# Altium schematic symbol library Topping_L50.SchLib: 35 symbols
Pins are listed as number, name and electrical type; pins without a type are passive.

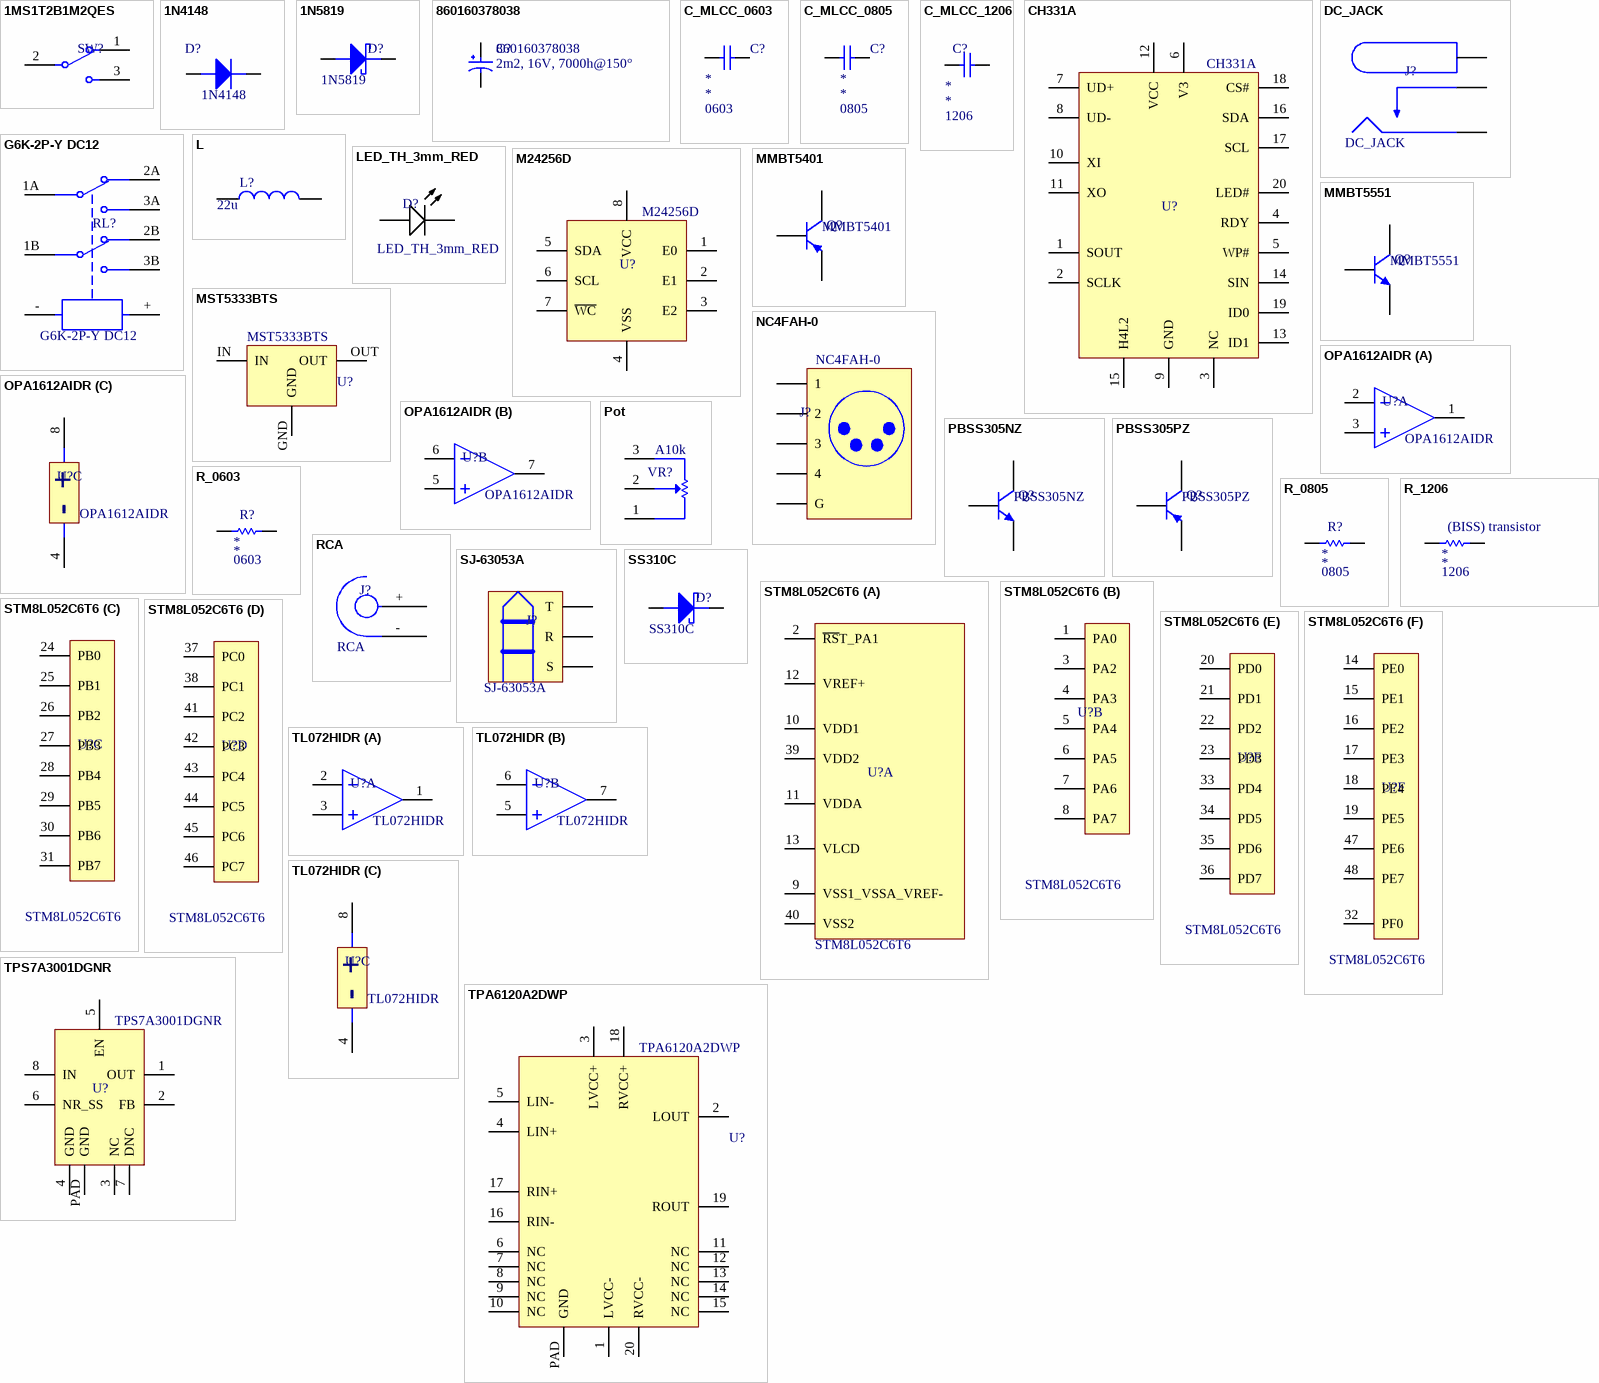
[diagram p0: symbols 1MS1T2B1M2QES to TPS7A3001DGNR]

## 1MS1T2B1M2QES
designator SW?  (value not drawn)
Mini Toggle Switch 1M Series SPDT ON-ON Short Lever PC Through-Hole; Manufacturer: Dailywell; Category: Switch; Sub-Category: Mechanical; Value: 1MS1T2B1M2QES
pins: 1, 2, 3

## 1N4148
designator D?
Generic small signal diode; Manufacturer Part Number: BAT48ZFILM; Number of Elements: 1; Rep Pk Reverse Voltage-Max: 40V; Package Body Material: Plastic; Diode Type: RECTIFIER; Forward Voltage-Max (VF): 250mV; Non-rep Pk Forward Current-Max: 2A; Diode Element Material: SILICON; Time @ Peak Reflow Temperature-Max (s): 30s; Max Output Current: 350mA; Qualification Status: Not Qualified; Peak Reflow Temperature (Cel): 260°C; Max Operating Temperature: 150°C; Terminal Position: DUAL; Technology: SCHOTTKY; JESD-30 Code: R-PDSO-G2; Category: Diode; Surface Mount: Yes; RoHS Compliant: Yes; Manufacturer: Generic; Number of Pins: 2; Sub-Category: Signal; Terminal Form: Gull Wing; REACH SVHC: Yes; JESD-609 Code: e3; Package Shape: Rectangular; Package Style: SMALL OUTLINEMeter; Terminal Finish: Tin; Component Type: Standard_Diode; Value: 1N4148
pins: A, K

## 1N5819
designator D?
Generic Schottky, 1N5819; Manufacturer Part Number: SS3H10-E3/9AT; Diode Element Material: SILICON; Forward Voltage-Max (VF): 650mV; Time @ Peak Reflow Temperature-Max (s): 40s; Diode Type: RECTIFIER; Number of Phases: 1; Non-rep Pk Forward Current-Max: 100A; Rep Pk Reverse Voltage-Max: 100V; Application(s): EFFICIENCY; Qualification Status: Not Qualified; JEDEC-95 Code: DO-214AB; Max Output Current: 3A; Package Body Material: Plastic; Terminal Position: DUAL; JESD-609 Code: e3; JESD-30 Code: R-PDSO-C2; Technology: SCHOTTKY; Min Operating Temperature: -65°C; Terminal Finish: Tin; Package Shape: Rectangular; RoHS Compliant: Yes; Manufacturer: Generic; REACH SVHC: No SVHC; Moisture Sensitivity Level: 1; Number of Elements: 1; Category: Diode; Peak Reflow Temperature (Cel): 260°C; Terminal Form: C BEND; Max Operating Temperature: 175°C; Number of Pins: 2; Package Style: SMALL OUTLINEMeter; Sub-Category: Power; Surface Mount: Yes; Component Type: Standard_Diode; Value: 1N5819
pins: A, K

## 860160378038
designator C?  Notes: 2m2, 16V, 7000h@150°  (hidden comment: 860160378038)
Alum. Electrolytic Cap 2200µF 16V 13mm Radial WCAP-ATLL; Lifetime 7000h +105°C; Manufacturer: Würth Elektronik; Impedance: 90mR; Ripple Current: 2.082A; Polarity: Polar; Life (Hours): 7000Hour; Tolerance: 20%; Capacitance: 2.2mF; Height - Seated (Max): 0.846inch; RoHS Compliant: Yes; Max Operating Temperature: 105°C; Sub-Category: Electrolytic; Mount: Through Hole; Min Operating Temperature: -55°C; Packaging: Tape and Reel; Category: Capacitor; Package Quantity: 300; Voltage Rating: 16V; Lead Pitch: 0.197inch; Case/Package: Radial; Manufacturer Part Number: 860160378038; Component Type: Standard_Passive_C; Value: 860160378038
footprint CAPAE13X20 (Aluminium electrolytic capacitor, polarized 13mm diameter, 20mm height, 5mm pitch)
pins: +, -

## C_MLCC_0603
designator C?  Package: 0603  (hidden comment: C_MLCC_0603)
Generic MLCC 0603 Non Polarized Capacitor; Category: Capacitor; Sub-Category: MLCC; Manufacturer: Generic; Notes: *; Value: *
footprint CAPC1608X09N (Chip Capacitor, 2-Leads, Body 1.60x0.80mm, IPC Medium Density)
pins: 1, 2

## C_MLCC_0805
designator C?  Package: 0805  (hidden comment: C_MLCC_0805)
Generic MLCC 0805 Non Polarized Capacitor; Category: Capacitor; Sub-Category: MLCC; Manufacturer: Generic; Notes: *; Value: *
footprint CAPC2012X14N (Chip Capacitor, 2-Leads, Body 2.00x1.25mm, IPC Medium Density)
pins: 1, 2

## C_MLCC_1206
designator C?  Package: 1206  (hidden comment: C_MLCC_1206)
Generic MLCC Non Polarized Capacitor 1206; Manufacturer: Generic; Category: Capacitor; Sub-Category: MLCC; Notes: *; Value: *
footprint C_NP_1206
pins: 1, 2

## CH331A
designator U?
USB 2.0 SSOP-20-208mil USB Converters ROHS; Manufacturer: WCH; Category: IC; Sub-Category: USB; Package: SSOP20; Value: CH331A
footprint TSOP65P640X120-20N (TSOP, 20-Leads, Body 6,90x4,40mm, Pitch 0,65mm, IPC Medium Density)
pins: 1 SOUT, 2 SCLK, 3 NC, 4 RDY, 5 WP#, 6 V3, 7 UD+, 8 UD-, 9 GND, 10 XI, 11 XO, 12 VCC, 13 ID1, 14 SIN, 15 H4L2, 16 SDA, 17 SCL, 18 CS#, 19 ID0, 20 LED#

## DC_JACK
designator J?
Generic Switched Horizontal DC Jack; Manufacturer: Generic; Category: Connector; Sub-Category: Jack; Value: DC_JACK
footprint DC_JACK
pins: S, SN, T

## G6K-2P-Y DC12
designator RL?
Low Signal Relays - PCB Gullwing NoLatch 3.2 DPDT 12VDC 100mW T/R; Manufacturer: Omron; Category: Switch; Sub-Category: Relay; Value: G6K-2P-Y DC12
footprint G6K-2P-Y
pins: 1A, 1B, 2A, 2B, 3A, 3B, +, -

## L
designator L?  value 22u
Generic L; Manufacturer Part Number: MPXV1D1054L150; RoHS Compliant: Yes; Sub-Category: Power; Manufacturer: Generic; Category: Inductor; Component Type: Standard_Passive_L
pins: 1, 2

## LED_TH_3mm_RED
designator D?
Generic Through Hole 3mm Red Led; Manufacturer: Generic; Category: Diode; Sub-Category: LED; Value: LED_TH_3mm_RED
pins: A, K

## M24256D
designator U?
256-Kbit serial I²C bus EEPROM; Manufacturer: ST Microelectronics; Category: IC; Sub-Category: Memory; Package: SOIC8; Value: M24256D
footprint SOIC127P600X175-8L (SOIC, 8-Leads, Body 4,90x3,90mm, Pitch 1,27mm, IPC High Density)
pins: 1 E0, 2 E1, 3 E2, 4 VSS, 5 SDA, 6 SCL, 7 ~{WC}, 8 VCC

## MMBT5401
designator Q?
PNP Epitaxial Silicon Transistor; Manufacturer: On Semi; Manufacturer Part Number: MMBT3904VL; Package Body Material: Plastic; JEDEC-95 Code: TO-236AB; Transistor Application: SWITCHING; Max Collector Current: 200mA; DC Current Gain-Min (hFE): 30; Turn-on Time-Max (ton): 70ns; Turn-off Time-Max (toff): 250ns; Number of Elements: 1; Polarity/Channel Type: NPN; Transition Frequency-Nom (fT): 300MHz; Collector-emitter Voltage-Max: 40V; Package Shape: Rectangular; JESD-30 Code: R-PDSO-G3; Number of Pins: 3; REACH SVHC: Yes; Sub-Category: BJT; RoHS Compliant: Yes; Transistor Element Material: SILICON; Terminal Position: DUAL; Surface Mount: Yes; Terminal Form: Gull Wing; Package Style: SMALL OUTLINEMeter; Category: Transistor; Component Type: Standard_Transistor; Value: MMBT5401
footprint SOT95P230X110-3N (SOT23, 3-Leads, Body 2.90x2.30mm, Pitch 0.95mm, IPC Medium Density); pin to pad B>1 C>3 E>2
pins: B, C, E

## MMBT5551
designator Q?
NPN General-Purpose / Amplifier; Manufacturer: On Semi; Manufacturer Part Number: MMBT3904VL; Package Body Material: Plastic; JEDEC-95 Code: TO-236AB; Transistor Application: SWITCHING; Max Collector Current: 200mA; DC Current Gain-Min (hFE): 30; Turn-on Time-Max (ton): 70ns; Turn-off Time-Max (toff): 250ns; Transistor Element Material: SILICON; Number of Elements: 1; Transition Frequency-Nom (fT): 300MHz; Collector-emitter Voltage-Max: 40V; Package Shape: Rectangular; JESD-30 Code: R-PDSO-G3; Number of Pins: 3; REACH SVHC: Yes; Sub-Category: BJT; RoHS Compliant: Yes; Terminal Position: DUAL; Surface Mount: Yes; Terminal Form: Gull Wing; Package Style: SMALL OUTLINEMeter; Polarity/Channel Type: NPN; Category: Transistor; Component Type: Standard_Transistor; Value: MMBT5551
footprint SOT95P230X110-3N (SOT23, 3-Leads, Body 2.90x2.30mm, Pitch 0.95mm, IPC Medium Density); pin to pad B>1 C>3 E>2
pins: B, C, E

## MST5333BTS
designator U?
Fixed Positive Standard Regulator, 3.3VBIPolar, PSSO3; Manufacturer: Milestone Semiconductor Inc.; Manufacturer Part Number: L78L33ACUTR; Output Voltage1-Nom: 3.3V; Load Regulation-Max: 0.06%; Qualification Status: Not Qualified; Package Body Material: Plastic; Output Voltage1-Max: 3.465V; Number of Functions: 1; Regulator Type: FIXED POSITIVE SINGLE OUTPUT STANDARD REGULATOR; Output Voltage1-Min: 3.135V; Output Current1-Max: 70mA; Line Regulation-Max: 0.15%; Time @ Peak Reflow Temperature-Max (s): 30s; Max Input Voltage: 20V; Input Voltage Absolute-Max: 30V; Voltage Tolerance-Max: 5%; Dropout Voltage1-Nom: 1.7V; Min Input Voltage: 5.3V; Package Equivalence Code: TO-243; Operating Temperature, TJ-Min: 0°C; REACH SVHC: No SVHC; Terminal Form: Flat; Terminal Position: SINGLE; Packaging: Tape and Reel; Height - Seated (Max): 1.6mm; Operating Temperature, TJ-Max: 125°C; RoHS Compliant: Yes; Technology: BIPOLAR; Adjustability: FIXED; Number of Outputs: 1; Width: 2.445mm; Terminal Finish: Tin; Length: 4.5mm; Moisture Sensitivity Level: 1; Terminal Pitch: 1.495mm; JESD-30 Code: R-PSSO-F3; Number of Pins: 3; Peak Reflow Temperature (Cel): 260°C; Package Style: SMALL OUTLINEMeter; JESD-609 Code: e3; Package Shape: Rectangular; Surface Mount: Yes; Component Type: Standard_IC_Power; Category: IC; Sub-Category: Power; Package: SOT89; Value: MST5333BTS
footprint SOT89-150P410X160-3N (SOT89, 3-Leads, Body 4.50x2.45mm, Pitch 1.50mm, Lead Span 4.1mm, IPC Medium Density); pin to pad GND>2 IN>3 OUT>1
pins: GND, IN, OUT

## NC4FAH-0
designator J?
4 pole XLR female receptacle with 1/4" stereo jack, horizontal PCB mount; Manufacturer: Neutrik; Category: Connector; Sub-Category: XLR; Value: NC4FAH-0
pins: 1, 2, 3, 4, G

## OPA1612AIDR
designator U?
High-Performance, Bipolar-Input Audio Operational Amplifiers; Manufacturer: Texas Instruments; Category: IC; Sub-Category: OpAmp; Package: SOIC8; Value: OPA1612AIDR
footprint SOIC127P600X175-8L (SOIC, 8-Leads, Body 4,90x3,90mm, Pitch 1,27mm, IPC High Density)
part A pins: 1 OUT1, 2 IN1-, 3 IN1+
part B pins: 5 IN2+, 6 IN2-, 7 OUT2
part C pins: 4 VCC- (power), 8 VCC+ (power)
part C text: +; -

## PBSS305NZ
designator Q?
80 V, 5.1 A NPN low VCEsat (BISS) transistor; Manufacturer: NXP; Manufacturer Part Number: DZT2222A-13; Collector-emitter Voltage-Max: 40V; Time @ Peak Reflow Temperature-Max (s): 40s; Number of Elements: 1; Case Connection: COLLECTOR; Transistor Application: SWITCHING; Package Body Material: Plastic; Turn-on Time-Max (ton): 35ns; Power Dissipation-Max (Abs): 1W; DC Current Gain-Min (hFE): 40; Max Collector Current: 600mA; Transistor Element Material: SILICON; Transition Frequency-Nom (fT): 300MHz; Qualification Status: Not Qualified; Turn-off Time-Max (toff): 285ns; Max Operating Temperature: 150°C; JESD-609 Code: e3; Moisture Sensitivity Level: 1; Sub-Category: BJT; JESD-30 Code: R-PDSO-G4; RoHS Compliant: Yes; Surface Mount: Yes; REACH SVHC: Yes; Polarity/Channel Type: NPN; Terminal Finish: Tin; Terminal Form: Gull Wing; Package Shape: Rectangular; Number of Pins: 4; Package Style: SMALL OUTLINEMeter; Category: Transistor; Peak Reflow Temperature (Cel): 260°C; Terminal Position: DUAL; Component Type: Standard_Transistor; Package: SOT223-4; Value: PBSS305NZ
footprint SOT230P700X165-4N (SOT223, 4-Leads, Body 6.50x7.00mm (avg), Pitch 2.30mm, IPC Medium Density); pin to pad B>1 C>2+TAB E>3
pins: B, C, E

## PBSS305PZ
designator Q?
80 V, 5.1 A PNP low VCEsat (BISS) transistor; Manufacturer: NXP; Manufacturer Part Number: DZT2222A-13; Collector-emitter Voltage-Max: 40V; Time @ Peak Reflow Temperature-Max (s): 40s; Number of Elements: 1; Case Connection: COLLECTOR; Transistor Application: SWITCHING; Polarity/Channel Type: NPN; Package Body Material: Plastic; Turn-on Time-Max (ton): 35ns; Power Dissipation-Max (Abs): 1W; DC Current Gain-Min (hFE): 40; Max Collector Current: 600mA; Transistor Element Material: SILICON; Transition Frequency-Nom (fT): 300MHz; Qualification Status: Not Qualified; Turn-off Time-Max (toff): 285ns; Max Operating Temperature: 150°C; JESD-609 Code: e3; Moisture Sensitivity Level: 1; Sub-Category: BJT; JESD-30 Code: R-PDSO-G4; RoHS Compliant: Yes; Surface Mount: Yes; REACH SVHC: Yes; Terminal Finish: Tin; Terminal Form: Gull Wing; Package Shape: Rectangular; Number of Pins: 4; Package Style: SMALL OUTLINEMeter; Category: Transistor; Peak Reflow Temperature (Cel): 260°C; Terminal Position: DUAL; Component Type: Standard_Transistor; Package: SOT223-4; Value: PBSS305PZ
footprint SOT230P700X165-4N (SOT223, 4-Leads, Body 6.50x7.00mm (avg), Pitch 2.30mm, IPC Medium Density); pin to pad B>1 C>2+TAB E>3
pins: B, C, E

## Pot
designator VR?  value A10k  (hidden comment: Pot)
Generic Pot; Manufacturer: Generic; Category: Resistor; Sub-Category: Pot
pins: 1, 2, 3

## R_0603
designator R?, comment Package: 0603  (hidden comment: R)
Generic 0603 Single Resistor; Manufacturer: Generic; Category: Resistor; Sub-Category: SMD; Notes: *; Value: *
footprint RESC1608X06N
pins: 1, 2

## R_0805
designator R?, comment Package: 0805  (hidden comment: R)
Generic 0805 Single Resistor; Manufacturer: Generic; Category: Resistor; Sub-Category: SMD; Notes: *; Value: *
footprint RESC2012X06N
pins: 1, 2

## R_1206
designator (BISS) transistor, comment Package: 1206  (hidden comment: R)
Generic 1206 Single Resistor; Manufacturer: Generic; Category: Resistor; Sub-Category: SMD; Notes: *; Value: *
footprint RESC3116X06N
pins: 1, 2

## RCA
designator J?
Generic RCA Connector; Manufacturer: Generic; Category: Connector; Sub-Category: Audio; Value: RCA
pins: +, -

## SJ-63053A
designator J?
6.35 mm, Stereo, Right Angle, Through Hole Mount, 3 Conductors, 0 Internal Switches, Audio Jack Connector; Manufacturer: Same Sky; Category: Connector; Sub-Category: Jack; Value: SJ-63053A
footprint SJ-63053A (6.35 mm, Stereo, Right Angle, Through Hole Mount, 3 Conductors, 0 Internal Switches, Audio Jack Connector)
pins: R, S, T

## SS310C
designator D?
Rectifier Diode, Schottky, 1 Phase, 1 Element, 3A, 100V V(RRM), Silicon, DO-214AB; Manufacturer: Generic; Manufacturer Part Number: SS3H10-E3/9AT; Forward Voltage-Max (VF): 650mV; Time @ Peak Reflow Temperature-Max (s): 40s; Number of Phases: 1; Non-rep Pk Forward Current-Max: 100A; Application(s): EFFICIENCY; Qualification Status: Not Qualified; Package Body Material: Plastic; Terminal Position: DUAL; Diode Element Material: SILICON; JESD-609 Code: e3; JESD-30 Code: R-PDSO-C2; Technology: SCHOTTKY; Diode Type: RECTIFIER; Min Operating Temperature: -65°C; Terminal Finish: Tin; Package Shape: Rectangular; RoHS Compliant: Yes; Rep Pk Reverse Voltage-Max: 100V; REACH SVHC: No SVHC; Moisture Sensitivity Level: 1; Number of Elements: 1; Category: Diode; Peak Reflow Temperature (Cel): 260°C; Terminal Form: C BEND; JEDEC-95 Code: DO-214AB; Max Operating Temperature: 175°C; Max Output Current: 3A; Number of Pins: 2; Package Style: SMALL OUTLINEMeter; Sub-Category: Power; Surface Mount: Yes; Component Type: Standard_Diode; Package: SMC; Value: SS310C
footprint DIOM6959X26N (Molded Diode, 2-Leads, Body 6.86x5.91mm, IPC Medium Density)
pins: A, K

## STM8L052C6T6
designator U?
Value Line, 8-bit ultra-low-power MCU, 32-KB Flash, 256-byte data / EEPROM, RTC, LCD, timers, USART, I2C, SPI, ADC; Manufacturer: ST Microelectronics; Category: IC; Sub-Category: CPU; Value: STM8L052C6T6
footprint CQFP50P900X900X160-48N (CQFP, 48-Leads, Body 9,00x9,00mm, Pitch 0,50mm, IPC Medium Density)
part A pins: 2 ~{RS}T_PA1, 9 VSS1_VSSA_VREF-, 10 VDD1, 11 VDDA, 12 VREF+, 13 VLCD, 39 VDD2, 40 VSS2
part B pins: 1 PA0, 3 PA2, 4 PA3, 5 PA4, 6 PA5, 7 PA6, 8 PA7
part C pins: 24 PB0, 25 PB1, 26 PB2, 27 PB3, 28 PB4, 29 PB5, 30 PB6, 31 PB7
part D pins: 37 PC0, 38 PC1, 41 PC2, 42 PC3, 43 PC4, 44 PC5, 45 PC6, 46 PC7
part E pins: 20 PD0, 21 PD1, 22 PD2, 23 PD3, 33 PD4, 34 PD5, 35 PD6, 36 PD7
part F pins: 14 PE0, 15 PE1, 16 PE2, 17 PE3, 18 PE4, 19 PE5, 32 PF0, 47 PE6, 48 PE7

## TL072HIDR
designator U?
Operational Amplifiers - Op Amps Dual Low Noise Op Amp; Manufacturer: Texas Instruments; Category: IC; Sub-Category: OpAmp; Package: SOIC8; Value: TL072HIDR
footprint SOIC127P600X175-8L (SOIC, 8-Leads, Body 4,90x3,90mm, Pitch 1,27mm, IPC High Density)
part A pins: 1 OUT1, 2 IN1-, 3 IN1+
part B pins: 5 IN2+, 6 IN2-, 7 OUT2
part C pins: 4 VCC- (power), 8 VCC+ (power)
part C text: +; -

## TPA6120A2DWP
designator U?
Audio Amplifier, 1.5W, 2 Channel(s), 1 Func, SOIC20; Manufacturer: Texas Instruments; Manufacturer Part Number: TPA6120A2RGYT; Category: IC; JESD-609 Code: e4; Sub-Category: Audio; Moisture Sensitivity Level: 2; Terminal Finish: Nickel; REACH SVHC: Yes; Consumer IC Type: AUDIO AMPLIFIER; RoHS Compliant: Yes; Peak Reflow Temperature (Cel): 260°C; Component Type: Standard_IC_OpAmp; Package: SOIC20; Value: TPA6120A2DWP
footprint SOIC127P1040X265_HS-21N (SOIC, 20-Leads, Body 12,83x7,52mm, Pitch 1,27mm, Thermal Pad 3,81x2,79mm, IPC Medium Density)
pins: 1 LVCC-, 2 LOUT, 3 LVCC+, 4 LIN+, 5 LIN-, 6 NC, 7 NC, 8 NC, 9 NC, 10 NC, 11 NC, 12 NC, 13 NC, 14 NC, 15 NC, 16 RIN-, 17 RIN+, 18 RVCC+, 19 ROUT, 20 RVCC-, PAD GND

## TPS7A3001DGNR
designator U?
–35-V, –200-mA, Ultralow-Noise, Negative Linear Regulator; Manufacturer: Texas Instruments; Package: HVSSOP8; Category: IC; Sub-Category: Power; Value: TPS7A3001DGNR
footprint TSOP65P490X110_HS-9N (TSOP, 8-Leads, Body 3,00x3,00mm, Pitch 0,65mm, Thermal Pad 2,15x1,85mm, IPC Medium Density)
pins: 1 OUT, 2 FB, 3 NC, 4 GND, 5 EN, 6 NR_SS, 7 DNC, 8 IN, PAD GND

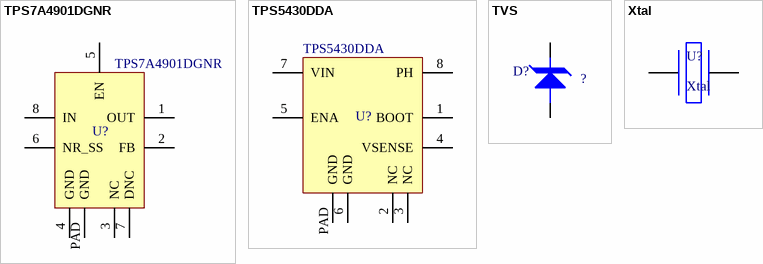
[diagram p1: symbols TPS7A4901DGNR to Xtal]

## TPS7A4901DGNR
designator U?
–35-V, –200-mA, Ultralow-Noise, Positive Linear Regulator; Manufacturer: Texas Instruments; Package: HVSSOP8; Category: IC; Sub-Category: Power; Value: TPS7A4901DGNR
footprint TSOP65P490X110_HS-9N (TSOP, 8-Leads, Body 3,00x3,00mm, Pitch 0,65mm, Thermal Pad 2,15x1,85mm, IPC Medium Density)
pins: 1 OUT, 2 FB, 3 NC, 4 GND, 5 EN, 6 NR_SS, 7 DNC, 8 IN, PAD GND

## TPS5430DDA
designator U?
Wide Input Range, Step-Down Converter; Manufacturer: Texas Instruments; Category: IC; Sub-Category: Power; Value: TPS5430DDA
footprint SOIC127P600X170_HS-9N (SOIC, 8-Leads, Body 4,90x3,90mm, Pitch 1,27mm, Thermal Pad 3,10x2,60mm, IPC Medium Density)
pins: 1 BOOT, 2 NC, 3 NC, 4 VSENSE, 5 ENA, 6 GND, 7 VIN, 8 PH, PAD GND

## TVS
designator D?  (value not drawn)
Generic TVS diode; Manufacturer: Bourns; Manufacturer Part Number: SMBJ30A; Breakdown Voltage-Nom: 35.8V; JEDEC-95 Code: DO-214AA; Diode Element Material: SILICON; Min Breakdown Voltage: 33.3V; Max Power Dissipation: 5W; Rep Pk Reverse Voltage-Max: 30V; Number of Elements: 1; Reference Standard: IEC-61000-4-2; Diode Type: TRANS VOLTAGE SUPPRESSOR; Max Breakdown Voltage: 36.8V; Non-rep Peak Rev Power Dis-Max: 600W; Package Body Material: Plastic; Polarity: Unidirectional; Qualification Status: Not Qualified; Min Operating Temperature: -55°C; REACH SVHC: No SVHC; Terminal Finish: Tin; Moisture Sensitivity Level: 1; Number of Pins: 2; JESD-30 Code: R-PDSO-C2; Technology: AVALANCHE; Terminal Position: DUAL; Max Operating Temperature: 150°C; Package Style: SMALL OUTLINEMeter; Package Shape: Rectangular; Terminal Form: C BEND; RoHS Compliant: Yes; Surface Mount: Yes; JESD-609 Code: e3; Sub-Category: TVS; Category: Diode; Component Type: Standard_Diode; Value: ?
footprint DIOM4336X24N (Molded Diode, 2-Leads, Body 4.31x3.62mm, IPC Medium Density)
pins: A, K

## Xtal
designator U?
Generic Xtal
pins: 1, 2